# EAGLE library part DP83848C (library lib_stankus)
National Semiconductor DP83848C ETH PHY Farnel #1286816, #1286817
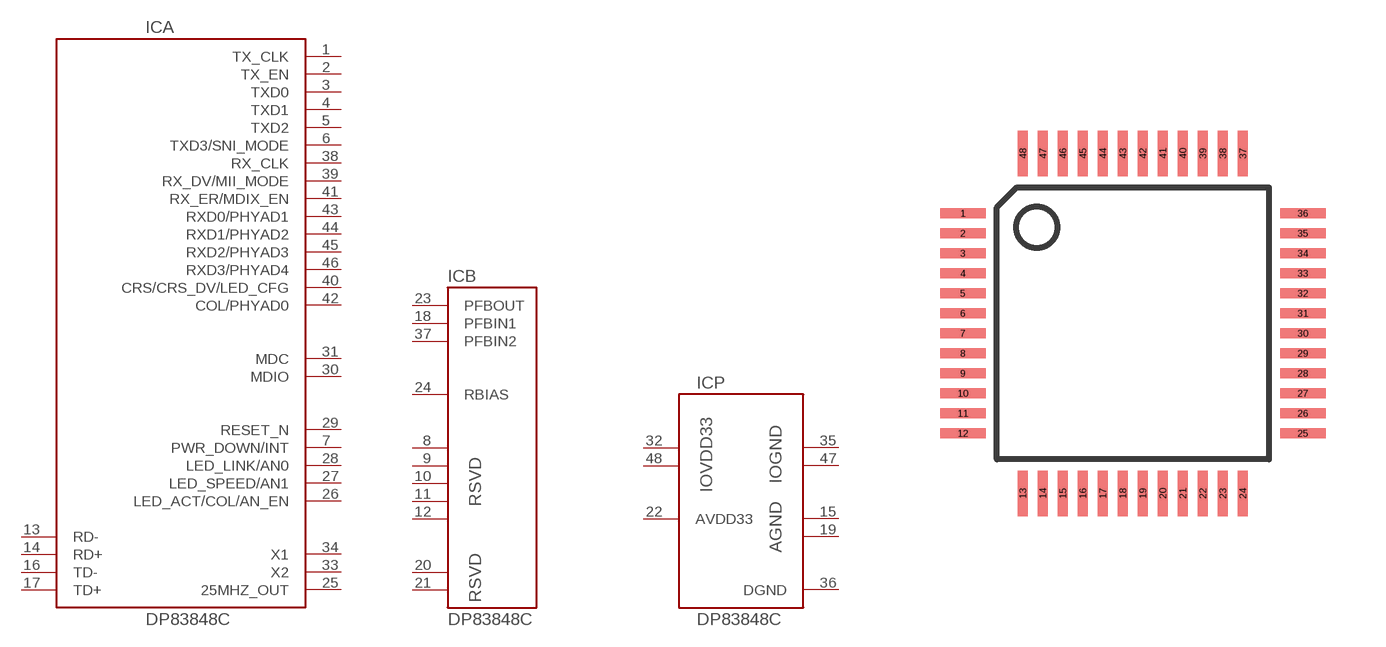
[diagram p1: symbol with the pads of QFP48_7_05; footprint QFP48_7_05]

Designator prefix IC; gates A=DP83848C_IO B=DP83848C_SPEC P=DP83848C_PWR

## DP83848C-QFP48  [QFP48_7_05]
1  A:TX_CLK  pas
2  A:TX_EN  pas
3  A:TXD0  pas
4  A:TXD1  pas
5  A:TXD2  pas
6  A:TXD3/SNI_MODE  pas
7  A:PWR_DOWN/INT  pas
8  B:RSVD  nc
9  B:RSVD  nc
10  B:RSVD  nc
11  B:RSVD  nc
12  B:RSVD  nc
13  A:RD-  pas
14  A:RD+  pas
15  P:AGND  pas
16  A:TD-  pas
17  A:TD+  pas
18  B:PFBIN1  pas
19  P:AGND  pas
20  B:RSVD  pas
21  B:RSVD  pas
22  P:AVDD33  pas
23  B:PFBOUT  pas
24  B:RBIAS  pas
25  A:25MHZ_OUT  pas
26  A:LED_ACT/COL/AN_EN  pas
27  A:LED_SPEED/AN1  pas
28  A:LED_LINK/AN0  pas
29  A:RESET_N  pas
30  A:MDIO  pas
31  A:MDC  pas
32  P:IOVDD33  pas
33  A:X2  pas
34  A:X1  pas
35  P:IOGND  pas
36  P:DGND  pas
37  B:PFBIN2  pas
38  A:RX_CLK  pas
39  A:RX_DV/MII_MODE  pas
40  A:CRS/CRS_DV/LED_CFG  pas
41  A:RX_ER/MDIX_EN  pas
42  A:COL/PHYAD0  pas
43  A:RXD0/PHYAD1  pas
44  A:RXD1/PHYAD2  pas
45  A:RXD2/PHYAD3  pas
46  A:RXD3/PHYAD4  pas
47  P:IOGND  pas
48  P:IOVDD33  pas

## Footprint QFP48_7_05 (pad centres in mm)
QFP48, 7x7 MM, 0.5 MM
smd 1.143 x 0.254: 1 -4.25,2.75; 2 -4.25,2.25; 3 -4.25,1.75; 4 -4.25,1.25; 5 -4.25,0.75; 6 -4.25,0.25; 7 -4.25,-0.25; 8 -4.25,-0.75; 9 -4.25,-1.25; 10 -4.25,-1.75; 11 -4.25,-2.25; 12 -4.25,-2.75; 25 4.25,-2.75; 26 4.25,-2.25; 27 4.25,-1.75; 28 4.25,-1.25; 29 4.25,-0.75; 30 4.25,-0.25; 31 4.25,0.25; 32 4.25,0.75; 33 4.25,1.25; 34 4.25,1.75; 35 4.25,2.25; 36 4.25,2.75
smd 0.254 x 1.143: 13 -2.75,-4.25; 14 -2.25,-4.25; 15 -1.75,-4.25; 16 -1.25,-4.25; 17 -0.75,-4.25; 18 -0.25,-4.25; 19 0.25,-4.25; 20 0.75,-4.25; 21 1.25,-4.25; 22 1.75,-4.25; 23 2.25,-4.25; 24 2.75,-4.25; 37 2.75,4.25; 38 2.25,4.25; 39 1.75,4.25; 40 1.25,4.25; 41 0.75,4.25; 42 0.25,4.25; 43 -0.25,4.25; 44 -0.75,4.25; 45 -1.25,4.25; 46 -1.75,4.25; 47 -2.25,4.25; 48 -2.75,4.25